# Altium schematic symbol library LM2576SX-5.0.Schlib: 1 symbol
Pins are listed as number, name and electrical type; pins without a type are passive.

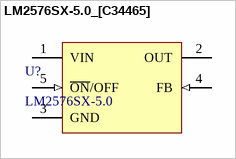
[diagram p0: symbol LM2576SX-5.0_[C34465]]

## LM2576SX-5.0_[C34465]
designator U?, comment LM2576SX-5.0
DC-DC芯片
footprint TO-263-5
pins: 1 VIN (power), 2 OUT (power), 3 GND (power), 4 FB (in), 5 ~{ON}/OFF (in)